# EAGLE library part WE-CCMF_0504 (library WE-CCMF)
WE-CCMF Ceramic Common Mode Filter Characteristics Compact multilayer common mode choke/filter High common mode attenuation on WiFi frequencies (> 30 dB @ bandwidth) Ultra-high-speed differential signal transmission Differential mode cut-off frequency up to 8 GHz LTCC based low-loss and highly reliable structure High thermal stability Recommended soldering: Reflow Operating temperature: -40 °C up to +85 °C Applications High speed data lines Wireless LAN/WiFi, bluetooth enabled devices (notebooks, laptops, routers with USB interface, IoT devices with WiFi and USB functionalities) HDMI 1.4 & 2.0, USB 3.1 Gen 1 & 2, USB 3.2, Sata 3.0 & 3.2, Thunderbolt 2 & 3 <https://www.we-online.com/catalog/media/o161697v209%20test2_Family_WE-CCMF_7480200xxx.jpg> Details see: https://www.we-online.com/catalog/en/WE-CCMF Updated by Ella Wu 2020-10-29 2020(C) Wurth Elektronik
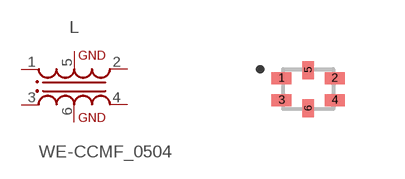
[diagram p0: symbol with the pads of WE-CCMF_0504; footprint WE-CCMF_0504]

Designator prefix L

## WE-CCMF_0504_748020024 (CUT-OFF-FREQUENCY: 8GHz; DATASHEET-URL: https://www.we-online.com/catalog/datasheet/748020024.pdf; IL: 30dB; IR: 300mA; MOUNT: SMT; PART-NUMBER: 748020024; RDC: 2.5Ohm; RISO: 100MOhm; VALUE: 2Ohm@100MHz; VR: 5Vdc), WE-CCMF_0504_748030024 (CUT-OFF-FREQUENCY: 12GHz; DATASHEET-URL: https://www.we-online.com/catalog/datasheet/748030024.pdf; IL: 30dB; IR: 300mA; MOUNT: SMT; PART-NUMBER: 748030024; RDC: 2.5Ohm; RISO: 100MOhm; VALUE: 2Ohm@100MHz; VR: 5Vdc), WE-CCMF_0504_748032455 (CUT-OFF-FREQUENCY: 12GHz; DATASHEET-URL: https://www.we-online.com/catalog/datasheet/748032455.pdf; IL: 20dB; IR: 300mA; MOUNT: SMT; PART-NUMBER: 748032455; RDC: 2.5Ohm; RISO: 100MOhm; VALUE: 1.6Ohm@100MHz; VR: 5Vdc)  [WE-CCMF_0504]
1  1  pas
2  2  pas
3  3  pas
4  4  pas
5  GND5  pas
6  GND6  pas

## Footprint WE-CCMF_0504 (pad centres in mm)
WE-CCMF Ceramic Common Mode Filter Size : 0504 Length X Width X Height = 1.25mm X 1mm X 0.8mm
smd 0.5 x 0.3: 1 -0.665,0.275; 2 0.665,0.275; 3 -0.665,-0.275; 4 0.665,-0.275
smd 0.28 x 0.45: 5 0,0.475; 6 0,-0.475